# EAGLE library part SD-47491-001 (library ohranyator)
Molex 47491-0001 micro USB SD-47491-001 http://www.molex.com/webdocs/datasheets/pdf/en-us/0474910001_IO_CONNECTORS.pdf
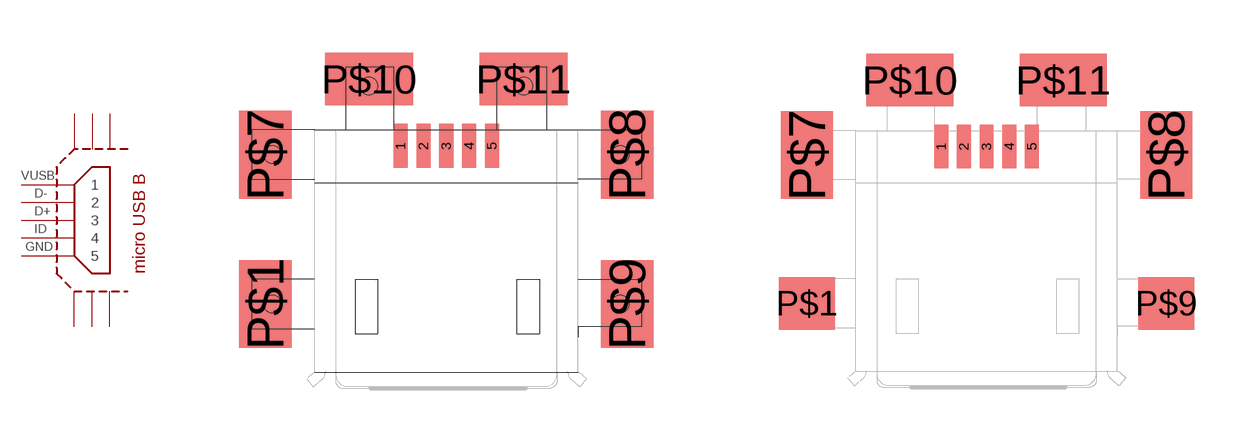
[diagram p6: symbol with the pads of SD-47491-001; footprints SD-47491-001, SD-47491-001-OUTSIDE]

Designator prefix -

## SD-47491-001, SD-47491-001OUTSIDE  [SD-47491-001]
1  1  in
2  2  in
3  3  in
4  4  in
5  5  in
P$1  P$1
P$7  P$2
P$8  P$3
P$9  P$8
P$10  P$9
P$11  P$11

## SD-47491-001OUTSIDE, SD-47491-001OUTSIDEOUTSIDE  [SD-47491-001-OUTSIDE]
Pads as for SD-47491-001

## Footprint SD-47491-001 (pad centres in mm)
smd 0.4 x 1.25: 1 -1.3,6.45; 2 -0.65,6.45; 3 0,6.45; 4 0.65,6.45; 5 1.3,6.45
smd 1.5 x 2.5: P$1 -5.15,1.95; P$7 -5.15,6.2; P$8 5.15,6.2; P$9 5.15,1.95
smd 2.5 x 1.5: P$10 -2.2,8.35; P$11 2.2,8.35

## Footprint SD-47491-001-OUTSIDE (pad centres in mm)
smd 0.4 x 1.25: 1 -1.3,6.45; 2 -0.65,6.45; 3 0,6.45; 4 0.65,6.45; 5 1.3,6.45
smd 1.6 x 1.5: P$1 -5.15,1.95; P$9 5.15,1.95
smd 1.5 x 2.5: P$7 -5.15,6.2; P$8 5.15,6.2
smd 2.5 x 1.5: P$10 -2.2,8.35; P$11 2.2,8.35